# Altium footprint library AHTS_PCB.PcbLib: 10 footprints
Each footprint in its own frame and in the unit in brackets; x right, y up, seen from the top. Pads: shape width x height; smd on the part's side, far side on the other; paste and mask are expansions set on the pad; w line width, h text height; cw(c..) or ccw(c..) is an arc to the next point about the centre after c.
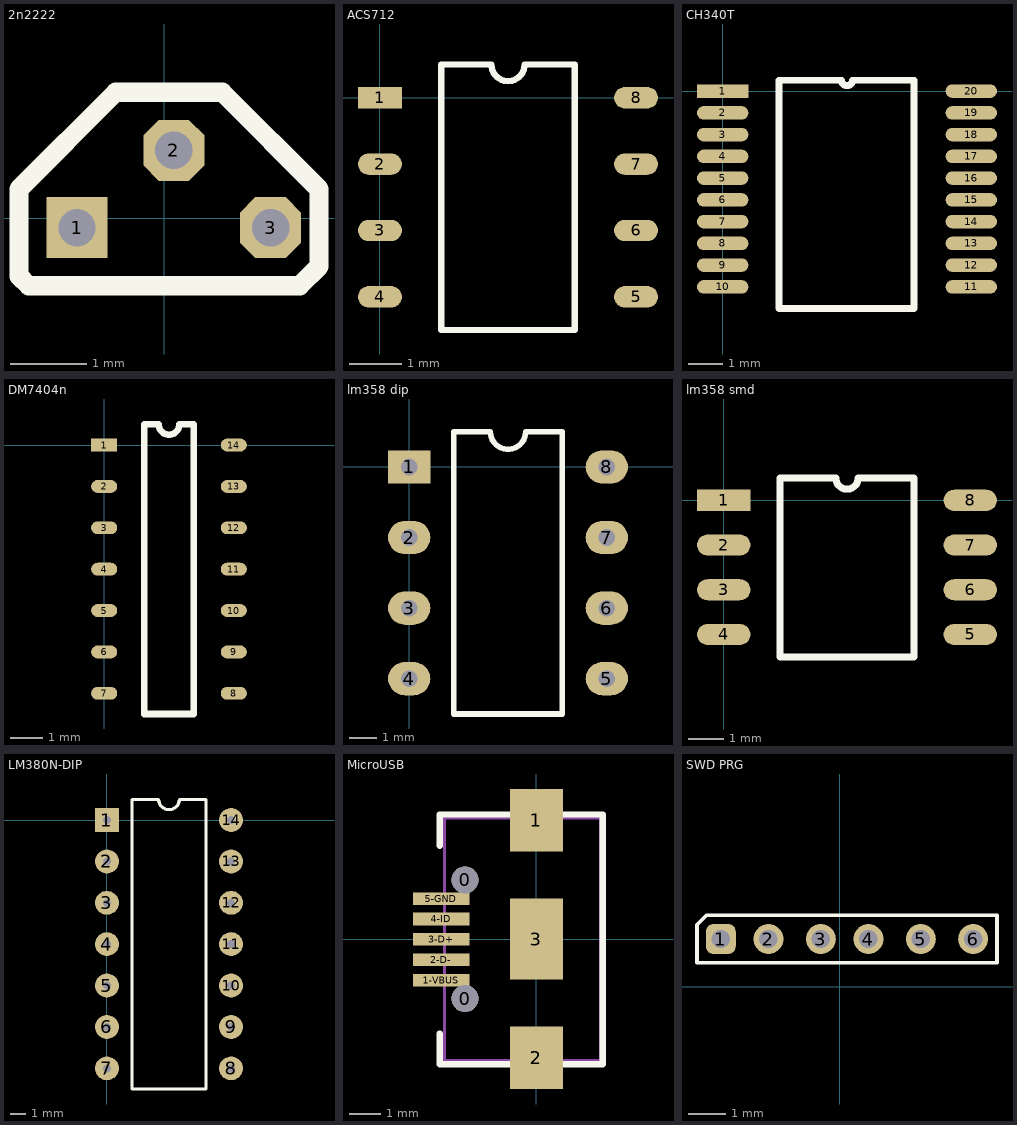
[diagram p0: the footprints below, top view; thin cyan lines are the x and y axes]

## 2n2222 [mm] "2n2222"
height 5
pads (3):
  rect 0.8x0.8 hole 0.49: 1(-1.143,-0.127)
  oct 0.8x0.8 hole 0.49: 2(0.127,0.889) 3(1.397,-0.127)
Top Overlay:
  lines w0.254: -1.905,-0.762 -1.778,-0.889 1.778,-0.889 2.032,-0.635 2.032,0.381 0.762,1.651 -0.635,1.651 -1.905,0.381 -1.905,-0.762

## ACS712 [mm]
pads (8):
  rect 0.84x0.41 smd: 1(0,0)
  oval 0.84x0.41 smd: 2(0,-1.27) 3(0,-2.54) 4(0,-3.81) 5(4.9,-3.81) 6(4.9,-2.54) 7(4.9,-1.27) 8(4.9,0)
Top Overlay:
  lines w0.12: 1.175,-4.445 1.175,0.635 2.133,0.635 ccw(c2.45,0.635) 2.768,0.635 3.725,0.635 3.725,-4.445 1.175,-4.445

## CH340T [mm]
pads (20):
  rect 1.5x0.399 smd: 1(0,0)
  oval 1.5x0.399 smd: 2(0,-0.635) 3(0,-1.27) 4(0,-1.905) 5(0,-2.54) 6(0,-3.175) 7(0,-3.81) 8(0,-4.445) 9(0,-5.08) 10(0,-5.715) 11(7.26,-5.715) 12(7.26,-5.08) 13(7.26,-4.445) 14(7.26,-3.81) 15(7.26,-3.175) 16(7.26,-2.54) 17(7.26,-1.905) 18(7.26,-1.27) 19(7.26,-0.635) 20(7.26,0)
Top Overlay:
  lines w0.203: 1.651,-6.35 5.588,-6.35 5.588,0.318 3.789,0.318 cw(c3.63,0.318) 3.471,0.318 1.651,0.318 1.651,-6.35
3D body "SSOP-20-5_3.step": height 1.2, standoff 0, extent -0.344,-6.561 7.456,0.639

## DM7404n [mm]
pads (14):
  rect 0.8x0.395 smd: 1(0,0)
  oval 0.8x0.395 smd: 2(0,-1.27) 3(0,-2.54) 4(0,-3.81) 5(0,-5.08) 6(0,-6.35) 7(0,-7.62) 8(3.978,-7.62) 9(3.978,-6.35) 10(3.978,-5.08) 11(3.978,-3.81) 12(3.978,-2.54) 13(3.978,-1.27) 14(3.978,0)
Top Overlay:
  lines w0.2: 1.235,-8.255 1.235,0.635 1.672,0.635 ccw(c1.989,0.635) 2.307,0.635 2.743,0.635 2.743,-8.255 1.235,-8.255

## lm358 dip [mm]
pads (8):
  rect 1.52x1.2 / inner rect 1.42x1.2 / far side rect 1.52x1.2 hole 0.6: 1(0,0)
  oval 1.52x1.2 / inner oval 1.42x1.2 / far side oval 1.52x1.2 hole 0.6: 2(0,-2.54) 3(0,-5.08) 4(0,-7.62) 5(7.11,-7.62) 6(7.11,-5.08) 7(7.11,-2.54) 8(7.11,0)
Top Overlay:
  lines w0.2: 1.595,-8.89 1.595,1.27 2.92,1.27 ccw(c3.555,1.27) 4.19,1.27 5.515,1.27 5.515,-8.89 1.595,-8.89

## lm358 smd [mm]
pads (8):
  rect 1.52x0.6 smd: 1(0,0)
  oval 1.52x0.6 smd: 2(0,-1.27) 3(0,-2.54) 4(0,-3.81) 5(7,-3.81) 6(7,-2.54) 7(7,-1.27) 8(7,0)
Top Overlay:
  lines w0.2: 1.595,-4.445 1.595,0.635 3.183,0.635 ccw(c3.5,0.635) 3.818,0.635 5.405,0.635 5.405,-4.445 1.595,-4.445

## LM380N-DIP [mm]
pads (14):
  rect 1.5x1.5 / inner rect 1.2x1.2 / far side rect 1.5x1.5 hole 0.5: 1(0,0)
  round 1.5 / inner round 1.2 / far side round 1.5 hole 0.5: 2(0,-2.6) 3(0,-5.2) 4(0,-7.8) 5(0,-10.4) 6(0,-13) 7(0,-15.6) 8(7.8,-15.6) 9(7.8,-13) 10(7.8,-10.4) 11(7.8,-7.8) 12(7.8,-5.2) 13(7.8,-2.6) 14(7.8,0)
Top Overlay:
  lines w0.2: 1.585,-16.9 1.585,1.3 3.25,1.3 ccw(c3.9,1.3) 4.55,1.3 6.215,1.3 6.215,-16.9 1.585,-16.9

## MicroUSB [mil] "MicroUSB"
pads (10):
  round 34 hole 34: 0(-90,-75.24) 0(-90,74.56)
  rect 66.93x78.74 smd: 1(0,150) 2(0,-150)
  rect 70.87x16 smd: 1-VBUS(-120,-52.24) 2-D-(-120,-26.24) 3-D+(-120,-0.24) 4-ID(-120,25.35) 5-GND(-120,50.94)
  rect 66.93x102.36 smd: 3(0,0)
Top Overlay:
  lines w7.87: -122,-158.24 -122,-119.24 ; -122,117.87 -122,157.24 84,157.24 84,-158.24 -121,-158.24
Mechanical 14:
  lines w3.94: -116,-154.24 -116,153.3
  lines w5: -116,-154.24 81.65,-154.24 81.65,153.3 -116,153.3
3D body "micro_usb_47346-0001.STEP": height 105.12, standoff -10.63, extent -135,-157.09 78.78,157.09

## PCBComponent_1 [mm]

## SWD PRG [mm]
pads (6):
  rrect50% 0.8x0.8 hole 0.49: 1(-3.175,1.27)
  round 0.8 hole 0.49: 2(-1.905,1.27) 3(-0.508,1.27) 4(0.762,1.27) 5(2.159,1.27) 6(3.556,1.27)
Top Overlay:
  lines w0.1: -3.81,0.635 -3.81,1.651 -3.556,1.905 4.191,1.905 4.191,0.635 -3.81,0.635